# Altium schematic symbol library Schlib1.SchLib: 1 symbol
Pins are listed as number, name and electrical type; pins without a type are passive.

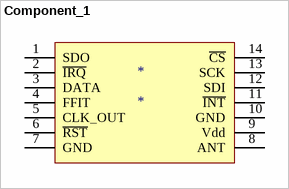
[diagram p0: symbol Component_1]

## Component_1
designator *
pins: 1 SDO, 2 ~{IRQ}, 3 DATA, 4 FFIT, 5 CLK_OUT, 6 ~{RST}, 7 GND, 8 ANT, 9 Vdd, 10 GND, 11 ~{INT}, 12 SDI, 13 SCK, 14 ~{CS}